# EAGLE library part RT6150A/B (library electron)
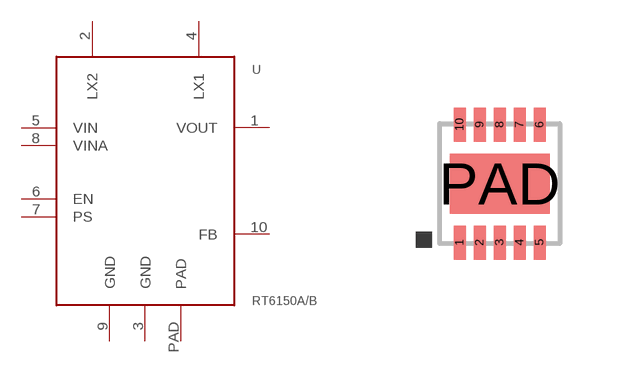
[diagram p1: symbol with the pads of DFN3X310L; footprint DFN3X310L]

Designator prefix -

## RT6150A/B  [DFN3X310L]
1  VOUT
2  LX2
3  GND
4  LX1
5  VIN
6  EN
7  PS
8  VINA
9  GND
10  FB
PAD  PAD

## Footprint DFN3X310L (pad centres in mm)
smd 0.3 x 0.85: 1 -1,-1.475; 2 -0.5,-1.475; 3 0,-1.475; 4 0.5,-1.475; 5 1,-1.475; 6 1,1.475; 7 0.5,1.475; 8 0,1.475; 9 -0.5,1.475; 10 -1,1.475
smd 2.5 x 1.5: PAD 0,0